# Altium footprint library 64800811622 Header 8 replace.PCBLIB: 1 footprints
Each footprint in its own frame and in the unit in brackets; x right, y up, seen from the top. Pads: shape width x height; smd on the part's side, far side on the other; paste and mask are expansions set on the pad; w line width, h text height; cw(c..) or ccw(c..) is an arc to the next point about the centre after c.
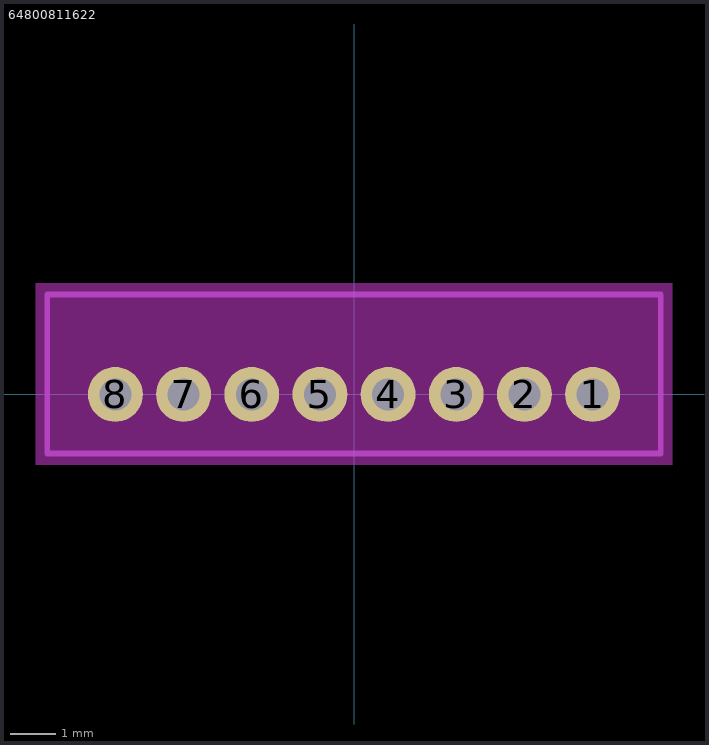
[diagram p0: the footprint, top view; thin cyan lines are the x and y axes]

## 64800811622 [mm]
pads (8):
  round 1.208 hole 0.7: 1(5.25,0) 2(3.75,0) 3(2.25,0) 4(0.75,0) 5(-0.75,0) 6(-2.25,0) 7(-3.75,0) 8(-5.25,0)
Top keep-out:
  region: -7,2.45 7,2.45 7,-1.55 -7,-1.55
tDocu:
  text "1" at 6.125,1.25 h1.26
  text "8" at -5.875,1.25 h1.26
tPlace:
  lines w0.127: -6.75,-1.3 -6.75,2.2 6.75,2.2 6.75,-1.3 -6.75,-1.3
  text "1" at 6.125,1.25 h1.26